# EAGLE library part XIAO-ESP32C6 (library Seeed Studio XIAO Series)
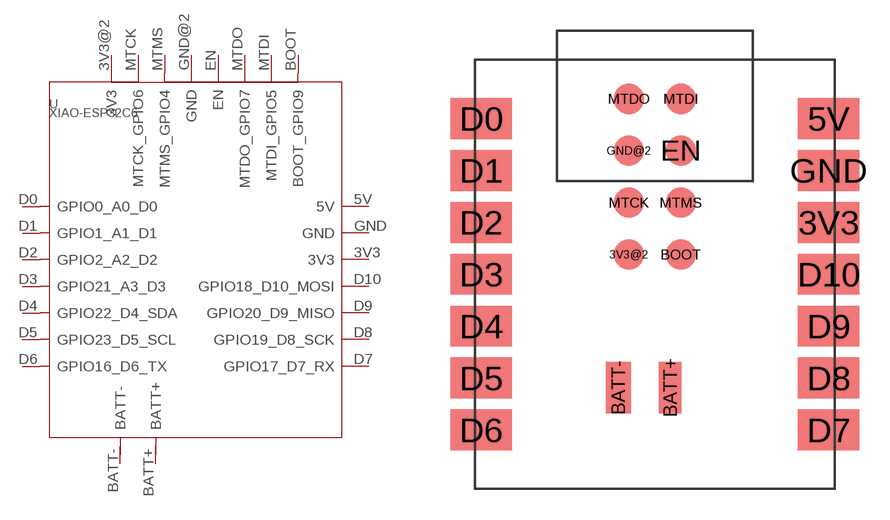
[diagram p4: symbol with the pads of XIAO-ESP32C6-MODULE14P-2.54-21X17.8MM; footprint XIAO-ESP32C6-MODULE14P-2.54-21X17.8MM]

Designator prefix -

## XIAO-ESP32C6  [XIAO-ESP32C6-MODULE14P-2.54-21X17.8MM]
3V3  3V3
3V3@2  3V3
5V  5V
BATT+  BATT+
BATT-  BATT-
BOOT  BOOT_GPIO9
D0  GPIO0_A0_D0
D1  GPIO1_A1_D1
D2  GPIO2_A2_D2
D3  GPIO21_A3_D3
D4  GPIO22_D4_SDA
D5  GPIO23_D5_SCL
D6  GPIO16_D6_TX
D7  GPIO17_D7_RX
D8  GPIO19_D8_SCK
D9  GPIO20_D9_MISO
D10  GPIO18_D10_MOSI
EN  EN
GND  GND
GND@2  GND
MTCK  MTCK_GPIO6
MTDI  MTDI_GPIO5
MTDO  MTDO_GPIO7
MTMS  MTMS_GPIO4

## Footprint XIAO-ESP32C6-MODULE14P-2.54-21X17.8MM (pad centres in mm)
smd 3 x 2: 3V3 17.301,13.04; 5V 17.301,18.12; D0 0.301,18.12; D1 0.301,15.58; D2 0.301,13.04; D3 0.301,10.5; D4 0.301,7.96; D5 0.301,5.42; D6 0.301,2.88; D7 17.301,2.88; D8 17.301,5.42; D9 17.301,7.96; D10 17.301,10.5; GND 17.301,15.58
smd 1.5 x 1.5: 3V3@2 7.531,11.46; BOOT 10.071,11.46; EN 10.071,16.54; GND@2 7.531,16.54; MTCK 7.531,14; MTDI 10.071,19.08; MTDO 7.531,19.08; MTMS 10.071,14
smd 1.1 x 2.5: BATT+ 9.55,4.953
smd 1.227 x 2.5: BATT- 7.01,4.953